# EAGLE library part MS5611-01BA03 (library pepelac)
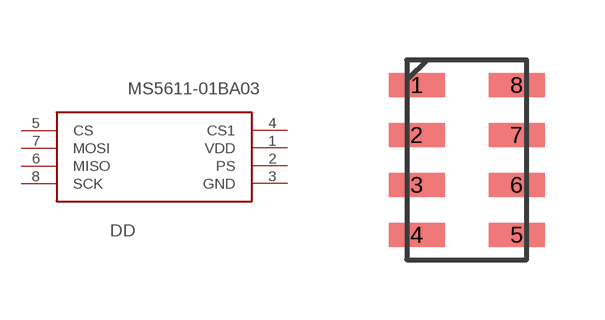
[diagram p12: symbol with the pads of MS5611-01BA03; footprint MS5611-01BA03]

Designator prefix DD

## MS5611-01BA03  [MS5611-01BA03]
1  VDD
2  PS
3  GND
4  CS1
5  CS
6  MISO
7  MOSI
8  SCK

## Footprint MS5611-01BA03 (pad centres in mm)
smd 1.4 x 0.6: 1 -1.25,1.875; 2 -1.25,0.625; 3 -1.25,-0.625; 4 -1.25,-1.875; 5 1.25,-1.875; 6 1.25,-0.625; 7 1.25,0.625; 8 1.25,1.875